# Altium footprint library LPO6610.PcbLib: 1 footprints
Each footprint in its own frame and in the unit in brackets; x right, y up, seen from the top. Pads: shape width x height; smd on the part's side, far side on the other; paste and mask are expansions set on the pad; w line width, h text height; cw(c..) or ccw(c..) is an arc to the next point about the centre after c.
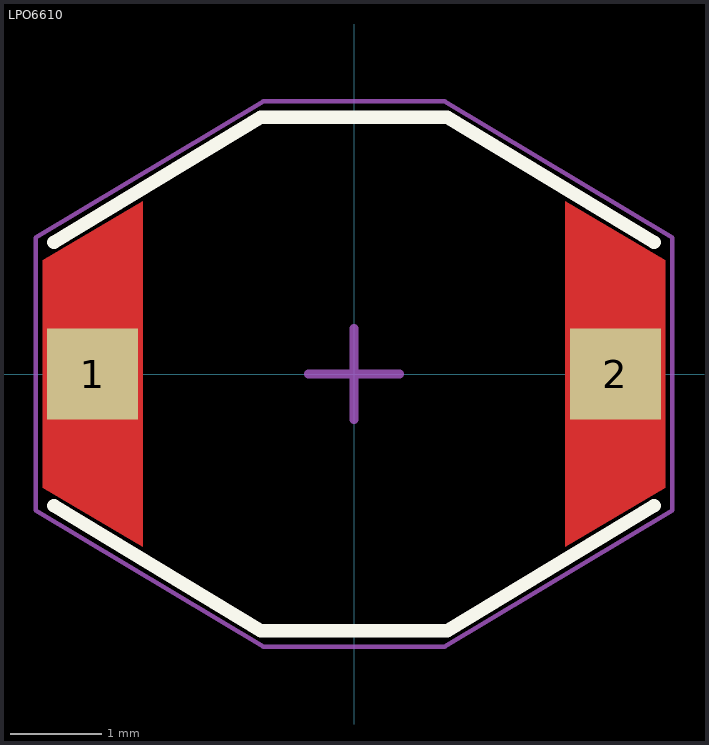
[diagram p0: the footprint, top view; thin cyan lines are the x and y axes]

## LPO6610 [mm]
pads (2):
  rect 1x1 smd: 1(-2.875,0) 2(2.875,0)
Top Layer:
  region: -3.425,1.25 -2.325,1.9 -2.325,-1.9 -3.425,-1.25
  region: 3.425,-1.25 2.325,-1.9 2.325,1.9 3.425,1.25
Top Overlay:
  lines w0.15: -3.3,-1.45 -1.025,-2.825 1.025,-2.825 3.3,-1.45 ; -3.3,1.45 -1.025,2.825 1.025,2.825 3.3,1.45
Mechanical 13:
  lines w0.05: -3.5,-1.5 -1,-3 0,-3 1,-3 3.5,-1.5 3.5,0 3.5,1.5 1,3 0,3 -1,3 -3.5,1.5 -3.5,0 -3.5,-1.5
Mechanical 15:
  lines w0.05: -3.5,-1.5 -3.5,0 -3.5,1.5 -1,3 0,3 1,3 3.5,1.5 3.5,0 3.5,-1.5 1,-3 0,-3 -1,-3 -3.5,-1.5
  lines w0.1: -0.5,0 0.5,0 ; 0,-0.5 0,0.5
Mechanical 17:
  text "'.Designator'" at -3.5,-0.25 h0.6
3D body "Coilcraft-LPO6610.step": height 1, standoff 0, extent -3.3,-2.75 3.3,2.75